# EAGLE library part 6810 (library micro-motorola)
MICROCONTROLLER/MEMORY DEVICE
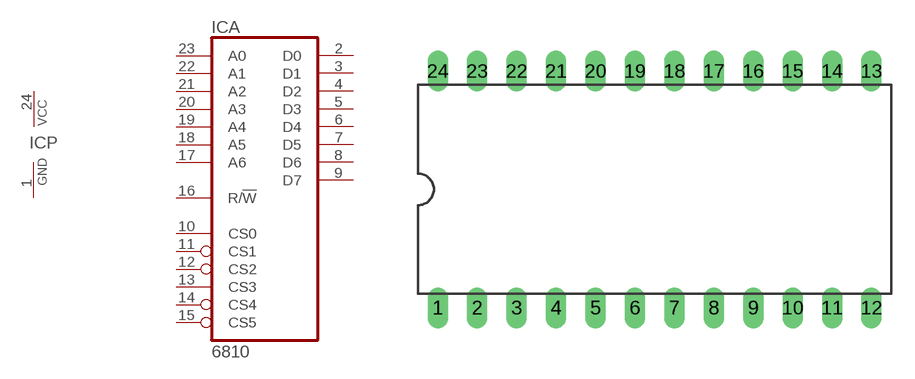
[diagram p40: symbol with the pads of DIL24; footprint DIL24]

Designator prefix IC; gates A=6810 P=PWRN

## 6810 (MF: NTE ELECTRONICS; MPN: NTE6810; OC_FARNELL: unknown; OC_NEWARK: 31C5319)  [DIL24]
1  P:GND  pwr
2  A:D0
3  A:D1
4  A:D2
5  A:D3
6  A:D4
7  A:D5
8  A:D6
9  A:D7
10  A:CS0  in
11  A:CS1  in
12  A:CS2  in
13  A:CS3  in
14  A:CS4  in
15  A:CS5  in
16  A:R/!W  in
17  A:A6  in
18  A:A5  in
19  A:A4  in
20  A:A3  in
21  A:A2  in
22  A:A1  in
23  A:A0  in
24  P:VCC  pwr

## Footprint DIL24 (pad centres in mm)
Dual In Line Package
drill 0.813 long: 1 -13.97,-7.62; 2 -11.43,-7.62; 3 -8.89,-7.62; 4 -6.35,-7.62; 5 -3.81,-7.62; 6 -1.27,-7.62; 7 1.27,-7.62; 8 3.81,-7.62; 9 6.35,-7.62; 10 8.89,-7.62; 11 11.43,-7.62; 12 13.97,-7.62; 13 13.97,7.62; 14 11.43,7.62; 15 8.89,7.62; 16 6.35,7.62; 17 3.81,7.62; 18 1.27,7.62; 19 -1.27,7.62; 20 -3.81,7.62; 21 -6.35,7.62; 22 -8.89,7.62; 23 -11.43,7.62; 24 -13.97,7.62